# EAGLE library part DS1305(SMD) (library dallas-rtc)
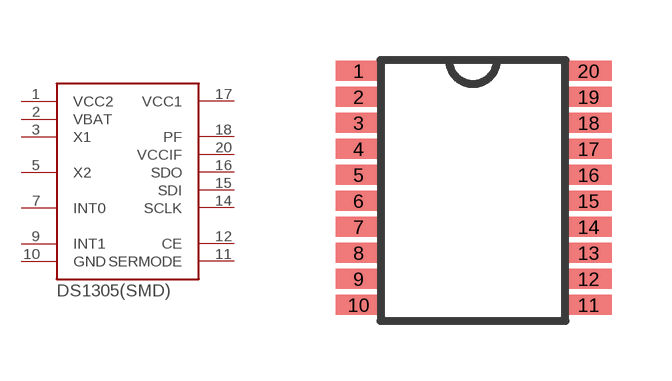
[diagram p3: symbol with the pads of TSSOP; footprint TSSOP]

Designator prefix -

## DS1305(SMD)  [TSSOP]
1  VCC2
2  VBAT
3  X1
5  X2
7  INT0
9  INT1
10  GND
11  SERMODE
12  CE
14  SCLK
15  SDI
16  SDO
17  VCC1
18  PF
20  VCCIF

## Footprint TSSOP (pad centres in mm)
smd 1.15 x 0.5: 1 0,0; 2 0,-0.65; 3 0,-1.3; 4 0,-1.95; 5 0,-2.6; 6 0,-3.25; 7 0,-3.9; 8 0,-4.55; 9 0,-5.2; 10 0,-5.85; 11 5.75,-5.85; 12 5.75,-5.2; 13 5.75,-4.55; 14 5.75,-3.9; 15 5.75,-3.25; 16 5.75,-2.6; 17 5.75,-1.95; 18 5.75,-1.3; 19 5.75,-0.65; 20 5.75,0